# Altium footprint library FXC1265-1R0M.PcbLib: 1 footprints
Each footprint in its own frame and in the unit in brackets; x right, y up, seen from the top. Pads: shape width x height; smd on the part's side, far side on the other; paste and mask are expansions set on the pad; w line width, h text height; cw(c..) or ccw(c..) is an arc to the next point about the centre after c.
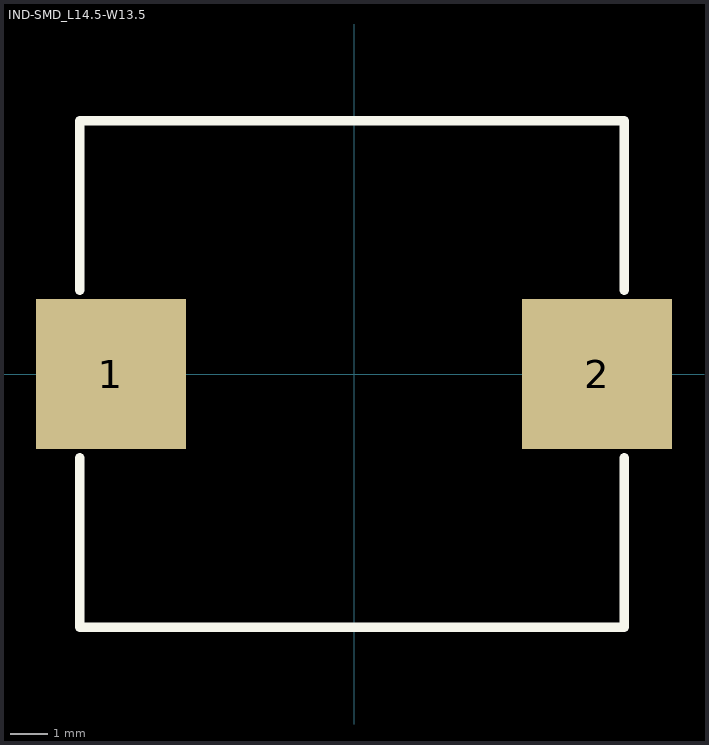
[diagram p0: the footprint, top view; thin cyan lines are the x and y axes]

## IND-SMD_L14.5-W13.5 [mm]
pads (2):
  rect 4x4 smd paste+0 mask+0.051: 1(-6.477,0) 2(6.477,0)
Top Overlay:
  lines w0.254: -7.302,-2.231 -7.302,-6.75 7.198,-6.75 7.198,-2.231 ; -7.302,2.231 -7.302,6.75 7.198,6.75 7.198,2.231